# Altium footprint library K60-mainboard-v3.1.PcbLib: 108 footprints (part 2 of 7)
Each footprint in its own frame and in the unit in brackets; x right, y up, seen from the top. Pads: shape width x height; smd on the part's side, far side on the other; paste and mask are expansions set on the pad; w line width, h text height; cw(c..) or ccw(c..) is an arc to the next point about the centre after c.
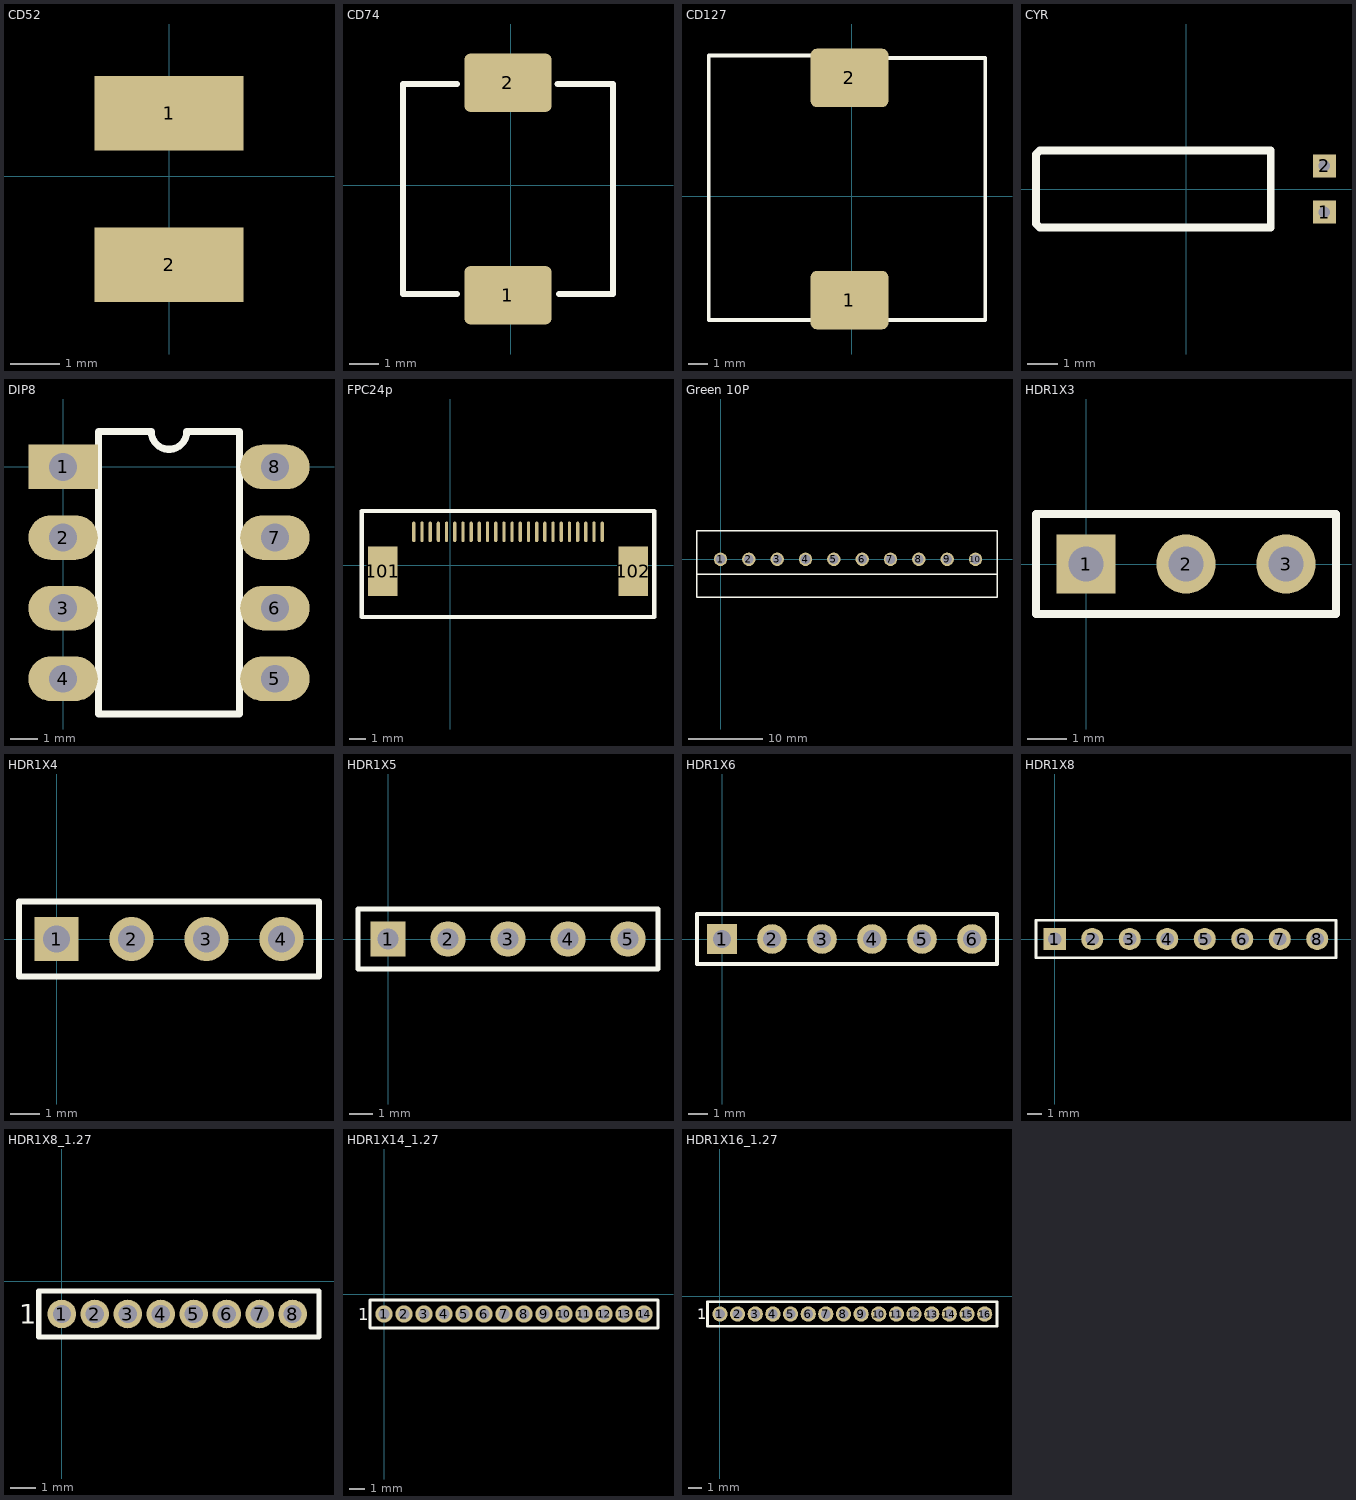
[diagram p1: the footprints below, top view; thin cyan lines are the x and y axes]

## CD52 [mm]
pads (2):
  rect 3x1.5 smd: 1(0,1.27) 2(0,-1.778)

## CD74 [mm]
pads (2):
  rrect20% 3x2 smd: 1(-0.095,-3.784) 2(-0.095,3.516)
Top Overlay:
  lines w0.2: -1.845,-3.734 -3.695,-3.734 -3.695,1.766 -3.695,3.466 -1.845,3.466 ; 1.605,3.466 3.505,3.466 3.505,-3.734 1.655,-3.734
3D body: height 4, standoff 0.5, extent -3.683,-3.708 3.505,3.454

## CD127 [mm]
pads (2):
  rrect20% 4x3 smd: 1(-0.127,-5.334) 2(-0.127,6.096)
Top Overlay:
  lines w0.2: -7.366,1.119 -7.366,-6.35 -1.845,-6.35 ; -7.366,1.143 -7.366,7.136 ; -7.366,7.239 -1.845,7.239 ; 1.524,-6.35 6.858,-6.35 6.858,7.112 1.656,7.112
3D body: height 4, standoff 0.5, extent -7.239,-4.699 6.731,5.613

## CYR [mil]
pads (2):
  rect 30x30 hole 15: 1(180,-30) 2(180,30)
Top Overlay:
  lines w10: -195,-45 -195,45 -190,50 110,50 110,-50 -190,-50 -195,-45

## DIP8 [mm]
height 1.76
pads (8):
  rect 2.5x1.6 hole 1: 1(0,0)
  oval 2.5x1.6 hole 1: 2(0,-2.54) 3(0,-5.08) 4(0,-7.62) 5(7.62,-7.62) 6(7.62,-5.08) 7(7.62,-2.54) 8(7.62,0)
Top Overlay:
  lines w0.254: 1.27,-8.89 1.27,1.27 3.175,1.27 ccw(c3.81,1.27) 4.445,1.27 6.35,1.27 6.35,-8.89 1.27,-8.89

## FPC24p [mm]
pads (26):
  oval 0.2x1.25 smd: 1(-2.229,2.026) 2(-1.729,2.026) 3(-1.229,2.026) 4(-0.729,2.026) 5(-0.229,2.026) 6(0.271,2.026) 7(0.771,2.026) 8(1.271,2.026) 9(1.771,2.026) 10(2.271,2.026) 11(2.771,2.026) 12(3.271,2.026) 13(3.771,2.026) 14(4.271,2.026) 15(4.771,2.026) 16(5.271,2.026) 17(5.771,2.026) 18(6.271,2.026) 19(6.771,2.026) 20(7.271,2.026) 21(7.771,2.026) 22(8.271,2.026) 23(8.771,2.026) 24(9.271,2.026)
  rect 1.8x3 smd: 101(-4.135,-0.381) 102(11.176,-0.381)
Top Overlay:
  lines w0.254: -5.405,-3.175 12.446,-3.175 12.446,3.302 -5.151,3.302 -5.405,3.302 -5.405,-3.175

## Green 10P [mm]
pads (10):
  round 1.8 hole 1.3: 1(0,0) 2(3.8,0) 3(7.6,0) 4(11.4,0) 5(15.2,0) 6(19,0) 7(22.8,0) 8(26.6,0) 9(30.4,0) 10(34.2,0)
Top Overlay:
  lines w0.2: -3.154,-2.032 9.8,-2.032 ; 0.656,-5.08 13.61,-5.08 ; 0.656,-2.032 13.61,-2.032 ; 9.8,-5.08 -3.154,-5.08 -3.154,3.81 13.61,3.81 ; 12.446,-5.08 25.4,-5.08 ; 12.446,-2.032 25.4,-2.032 ; 12.446,3.81 37.086,3.81 37.086,-5.08 25.375,-5.08 ; 25.375,-2.032 29.282,-2.032 ; 29.282,-2.042 37.086,-2.042

## GREEN Header2X [mm]

## HDR1X3 [mm] "Connector; Header; 3 Position"
pads (3):
  rect 1.5x1.5 hole 0.9: 1(0,0)
  round 1.5 hole 0.9: 2(2.54,0) 3(5.08,0)
Top Overlay:
  lines w0.2: -1.27,-1.27 -1.27,1.27 6.35,1.27 6.35,-1.27 -1.27,-1.27

## HDR1X4 [mm] "Connector; Header; 4 Position"
height 1.76
pads (4):
  rect 1.5x1.5 hole 0.9: 1(0,0)
  round 1.5 hole 0.9: 2(2.54,0) 3(5.08,0) 4(7.62,0)
Top Overlay:
  lines w0.2: -1.27,-1.27 8.89,-1.27 8.89,1.27 -1.27,1.27 -1.27,-1.27

## HDR1X5 [mm] "Connector; Header; 5 Position"
height 1.76
pads (5):
  rect 1.5x1.5 hole 0.9: 1(0,0)
  round 1.5 hole 0.9: 2(2.54,0) 3(5.08,0) 4(7.62,0) 5(10.16,0)
Top Overlay:
  lines w0.2: -1.27,-1.27 -1.27,1.27 11.43,1.27 11.43,-1.27 -1.27,-1.27

## HDR1X6 [mm] "Connector; Header; 5 Position"
height 1.76
pads (6):
  rect 1.5x1.5 hole 0.9: 1(0,0)
  round 1.5 hole 0.9: 2(2.54,0) 3(5.08,0) 4(7.62,0) 5(10.16,0) 6(12.7,0)
Top Overlay:
  lines w0.2: -1.27,-1.27 13.97,-1.27 13.97,1.27 -1.27,1.27 -1.27,-1.27

## HDR1X8 [mm] "Connector; Header; 8 Position"
pads (8):
  rect 1.5x1.5 hole 0.9: 1(0,0)
  round 1.5 hole 0.9: 2(2.54,0) 3(5.08,0) 4(7.62,0) 5(10.16,0) 6(12.7,0) 7(15.24,0) 8(17.78,0)
Top Overlay:
  lines w0.2: -1.27,-1.27 -1.27,1.27 19.05,1.27 19.05,-1.27 -1.27,-1.27

## HDR1X8_1.27 [mm]
pads (8):
  round 1.1 hole 0.7: 1(0,-1.27) 2(1.27,-1.27) 3(2.54,-1.27) 4(3.81,-1.27) 5(5.08,-1.27) 6(6.35,-1.27) 7(7.62,-1.27) 8(8.89,-1.27)
Top Overlay:
  lines w0.2: -0.889,-2.159 -0.889,-0.381 9.906,-0.381 9.906,-2.159 -0.889,-2.159
  text "1" at -1.651,-1.651 h0.76

## HDR1X14_1.27 [mm]
pads (14):
  round 1.1 hole 0.7: 1(0,-1.27) 2(1.27,-1.27) 3(2.54,-1.27) 4(3.81,-1.27) 5(5.08,-1.27) 6(6.35,-1.27) 7(7.62,-1.27) 8(8.89,-1.27) 9(10.16,-1.27) 10(11.43,-1.27) 11(12.7,-1.27) 12(13.97,-1.27) 13(15.24,-1.27) 14(16.51,-1.27)
Top Overlay:
  lines w0.2: -0.889,-2.159 17.399,-2.159 17.399,-0.381 -0.889,-0.381 -0.889,-2.159
  text "1" at -1.651,-1.651 h0.76

## HDR1X16_1.27 [mm]
pads (16):
  round 1.1 hole 0.7: 1(0,-1.27) 2(1.27,-1.27) 3(2.54,-1.27) 4(3.81,-1.27) 5(5.08,-1.27) 6(6.35,-1.27) 7(7.62,-1.27) 8(8.89,-1.27) 9(10.16,-1.27) 10(11.43,-1.27) 11(12.7,-1.27) 12(13.97,-1.27) 13(15.24,-1.27) 14(16.51,-1.27) 15(17.78,-1.27) 16(19.05,-1.27)
Top Overlay:
  lines w0.2: -0.889,-2.159 -0.889,-0.381 19.939,-0.381 19.939,-2.159 -0.889,-2.159
  text "1" at -1.651,-1.651 h0.76